# Altium integrated library Leds.IntLib: 1 symbol
Pins are listed as number, name and electrical type; pins without a type are passive.

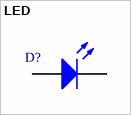
[diagram p0: symbol LED]

## LED
designator D?
LED Emitters; ForwardVoltage: 2V
footprint 0603_BLUE
footprint 0603_GREEN
footprint 0603_RED
footprint 0603_YELLOW
footprint 0805_BLUE
footprint 0805_GREEN
footprint 0805_RED
footprint 0805_YELLOW
pins: 1 A, 2 K